# EAGLE library part ALPS-RSA0N11M9A07 (library ALPS-motorfader)
ALPS RSA0N11M9A07 100mm 10KOHM B Touchsensitiv Motorfader Datasheet: http://www.alps.com/WebObjects/catalog.woa/E/HTML/Potentiometer/SlidePotentiometers/RSN1M/RSA0N11M9A07.html
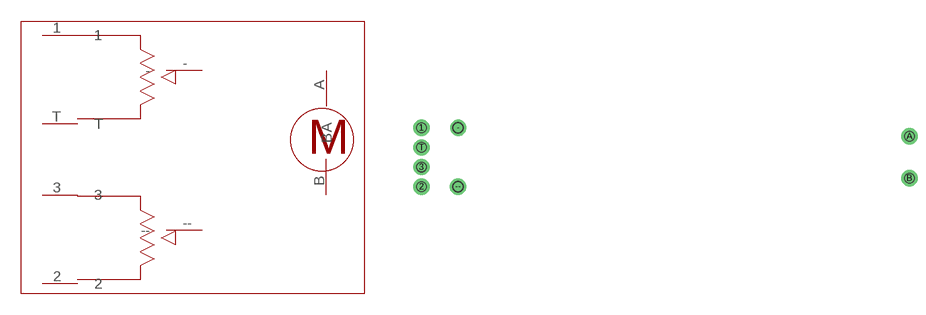
[diagram p0: symbol with the pads of MF-MOTORFADER-ALPS; footprint MF-MOTORFADER-ALPS]

Designator prefix -

## ALPS-RSA0N11M9A07  [MF-MOTORFADER-ALPS]
1  1  in
2  2  in
3  3  in
-  -  out
--  --  out
A  A  in
B  B  in
T  T  in

## Footprint MF-MOTORFADER-ALPS (pad centres in mm)
ALPS-Motorfader RASON
drill 1.85 pad 3.1: 1 10.351,14.628; 2 10.353,3.377; 3 10.352,7.122; - 17.35,14.624; -- 17.348,3.377; A 103.549,13.001; B 103.551,4.999; T 10.352,10.874
hole 1.8 at 10.349,14.636
hole 1.8 at 10.344,10.873
hole 1.8 at 10.345,7.119
hole 1.8 at 10.352,3.37
hole 2 at 17.352,3.363
hole 2 at 17.341,14.626
hole 1.8 at 103.555,4.991
hole 1.8 at 103.542,13.004